# EAGLE library part 429427320910 (library Switches_rev16a)
WS-RAT, 10*10mm Rotary Switch, right angle type, THT, 10 position, 5,08mm, 6 pins, round Arrow type, dark grey, real code
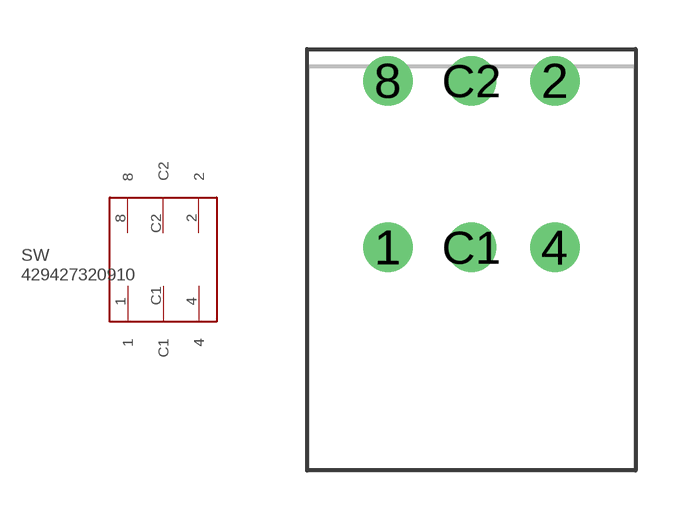
[diagram p132: symbol with the pads of 429427320910; footprint 429427320910]

Designator prefix SW

## 429427320910  [429427320910]
1  1
2  2
4  4
8  8
C1  C1
C2  C2

## Footprint 429427320910 (pad centres in mm)
WS-RAT, 10*10mm Rotary Switch, right angle type, THT, 10 position, 5,08mm, 6 pins, round Arrow type, dark grey, real code
drill 1: 1 -2.54,-2.54; 2 2.54,2.54; 4 2.54,-2.54; 8 -2.54,2.54; C1 0,-2.54; C2 0,2.54